# Altium schematic symbol library 691 216 510 0xx.SchLib: 2 symbols
Pins are listed as number, name and electrical type; pins without a type are passive.

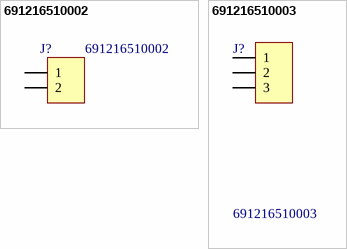
[diagram p0: symbols 691216510002 to 691216510003]

## 691216510002
designator J?
WR-TBL Horizontal Entry Modular with Rising Cage Clamp,Serie 2165 - 5.08 mm; Manufacturer: Würth Elektronik eiSos GmbH; ComponentLink1 Description: Manufacturer; ComponentLink2 Description: Datasheet; NoPins: 2; Created Date: 27 Novenber 2013; partNo: 691216510002; ComponentLink1URL: http://www.we-online.com; ComponentLink2URL: http://katalog.we-online.de/em/datasheet/6912165100xx.pdf; Created by: Karrer Zheng; Value: 691216510002
footprint 691216510002 (5,08mm - Modular - Horizontal wire entry - Rising cage clamp - 02p)
pins: 1, 2

## 691216510003
designator J?
WR-TBL Horizontal Entry Modular with Rising Cage Clamp,Serie 2165 - 5.08 mm; Manufacturer: Würth Elektronik eiSos GmbH; ComponentLink1 Description: Manufacturer; ComponentLink2 Description: Datasheet; NoPins: 3; Created Date: 27 Novenber 2013; partNo: 691216510003; ComponentLink1URL: http://www.we-online.com; ComponentLink2URL: http://katalog.we-online.de/em/datasheet/6912165100xx.pdf; Created by: Karrer Zheng; Value: 691216510003
footprint 691216510003 (5,08mm - Modular - Horizontal wire entry - Rising cage clamp - 03p)
pins: 1, 2, 3